# Altium schematic symbol library 5个焊盘.SCHLIB: 1 symbol
Pins are listed as number, name and electrical type; pins without a type are passive.

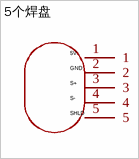
[diagram p0: symbol 5个焊盘]

## 5个焊盘
designator U??  (value not drawn)
Convert to PCB: yes; Device: 5个焊盘; Add into BOM: yes; Symbol: 5个焊盘
pins: 1, 2, 3, 4, 5
text: 5V; GND; S+; S-; SHLD